# Altium footprint library Switch.PcbLib: 16 footprints
Each footprint in its own frame and in the unit in brackets; x right, y up, seen from the top. Pads: shape width x height; smd on the part's side, far side on the other; paste and mask are expansions set on the pad; w line width, h text height; cw(c..) or ccw(c..) is an arc to the next point about the centre after c.
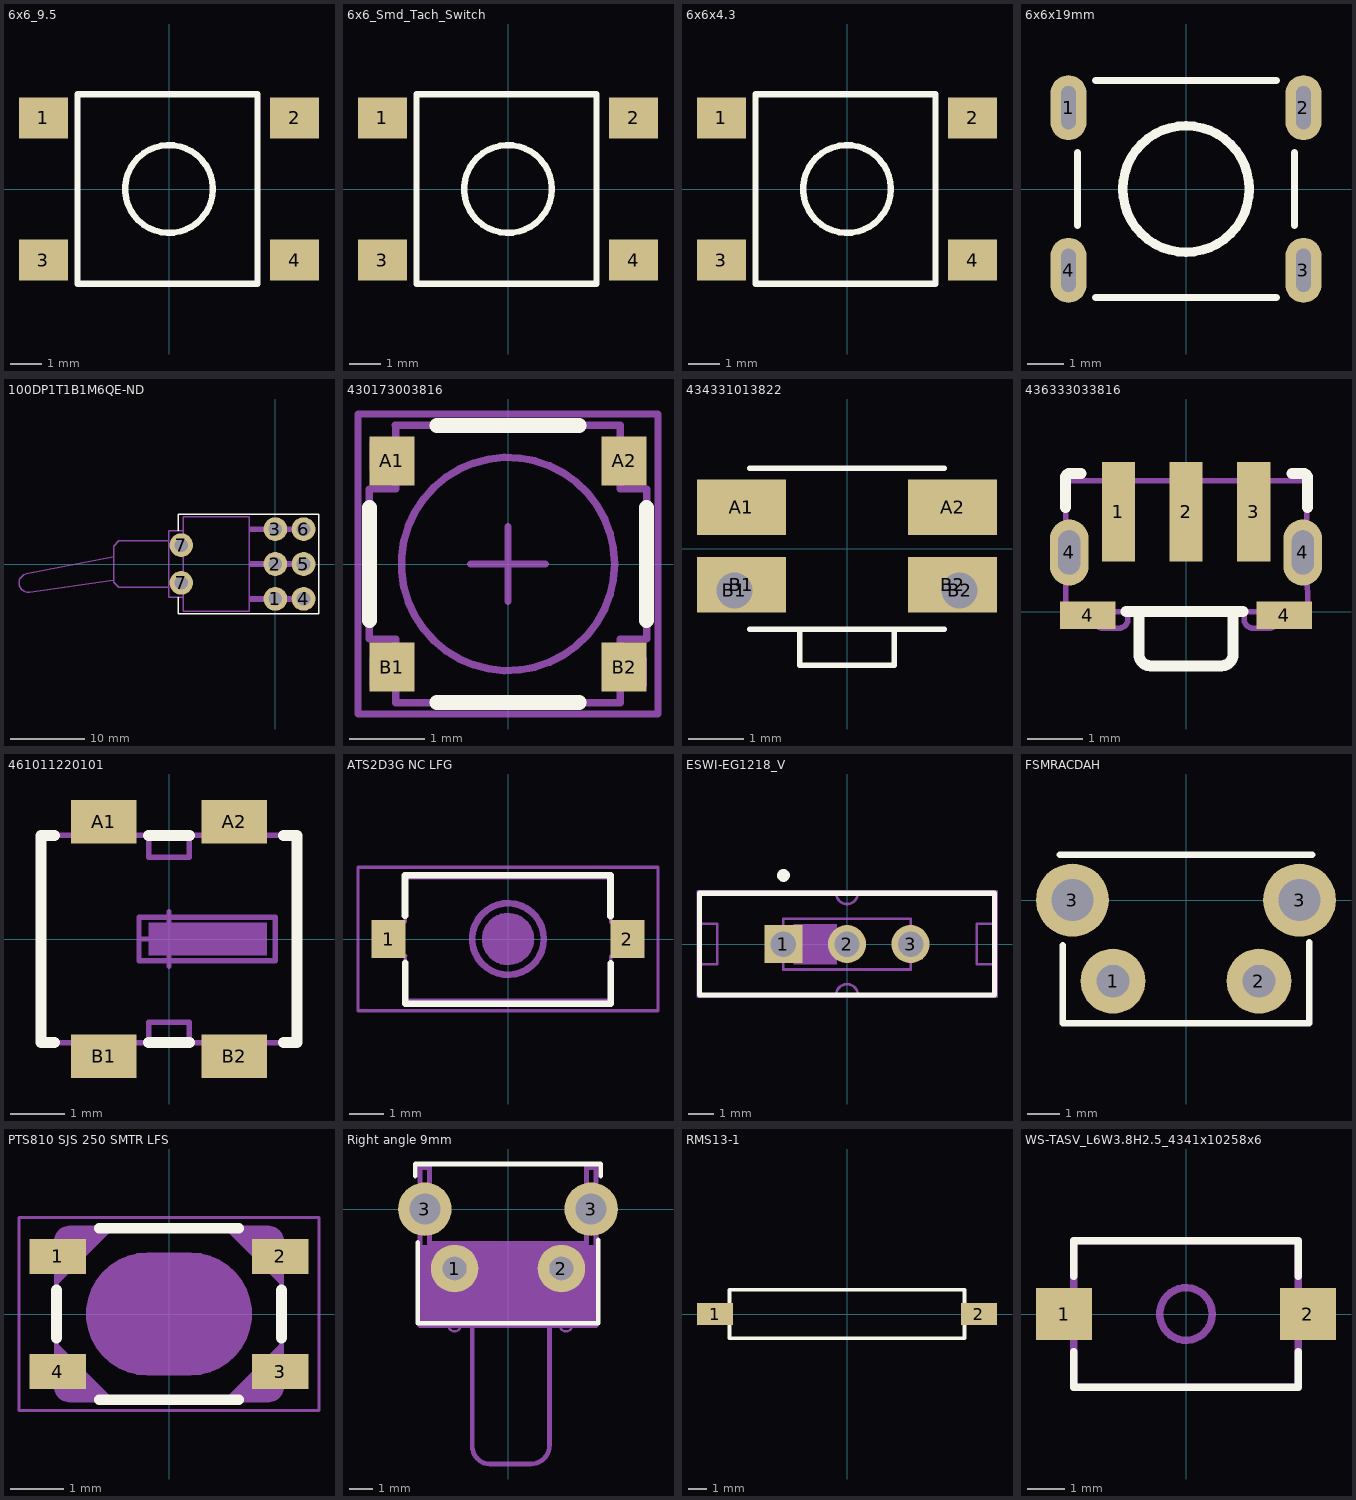
[diagram p0: the footprints below, top view; thin cyan lines are the x and y axes]

## 6x6_9.5 [mm]
pads (4):
  rect 1.55x1.3 smd: 1(-3.975,2.25) 2(3.975,2.25) 3(-3.975,-2.25) 4(3.975,-2.25)
Top Overlay:
  circle w0.2: c0,0 r1.389
  lines w0.2: -2.9,-3 -2.9,3 2.8,3 2.8,-3 -2.9,-3
3D body "6x6x9_5.STEP": height 9.5, standoff 0, extent -4.5,-3 4.5,3

## 6x6_Smd_Tach_Switch [mm]
pads (4):
  rect 1.55x1.3 smd: 1(-3.975,2.25) 2(3.975,2.25) 3(-3.975,-2.25) 4(3.975,-2.25)
Top Overlay:
  circle w0.2: c0,0 r1.389
  lines w0.2: -2.9,-3 -2.9,3 2.8,3 2.8,-3 -2.9,-3
3D body "6x6x4_3mm(2).STEP": height 4.31, standoff 0.01, extent -4.5,-3 4.5,3

## 6x6x4.3 [mm]
pads (4):
  rect 1.55x1.3 smd: 1(-3.975,2.25) 2(3.975,2.25) 3(-3.975,-2.25) 4(3.975,-2.25)
Top Overlay:
  circle w0.2: c0,0 r1.389
  lines w0.2: -2.9,-3 2.8,-3 2.8,3 -2.9,3 -2.9,-3
3D body "6x6x4_3mm(2).STEP": height 4.31, standoff 0.01, extent -4.5,-3 4.5,3

## 6x6x19mm [mm]
height 19
pads (4):
  oval 1x1.8 hole 1.2 slot 0.4 at 0 deg: 1(-3.25,2.25) 2(3.25,2.25) 3(3.25,-2.25) 4(-3.25,-2.25)
Top Overlay:
  circle w0.254: c0,0 r1.75
  lines w0.2: -3,-1 -3,1 ; -2.5,-3 2.5,-3 ; -2.5,3 2.5,3 ; 3,-1 3,1
3D body "Tact_6x6x19.step": height 19.01, standoff -3.49, extent -3.95,-3.1 3.95,3.1

## 100DP1T1B1M6QE-ND [mm] "DPDT"
pads (8):
  round 3.2 hole 1.85: 1(0,-4.7) 2(0,0) 3(0,4.7) 4(3.81,-4.7) 5(3.81,0) 6(3.81,4.7) 7(-12.7,-2.54) 7(-12.7,2.54)
Top Overlay:
  lines w0.2: -13.1,-4.5 -13.1,-6.7 5.9,-6.7 5.9,6.7 -13.1,6.7 -13.1,4.5
Mechanical 13:
  rectangle: -3.6,-5.1 3.844,-4.32
  rectangle: -3.55,-0.4 3.844,0.38
  rectangle: -3.6,4.3 3.844,5.08
  lines w0.2: -21.846,-2.185 -33.164,-3.801 cw(c-33.338,-2.551) -33.594,-1.314 -21.839,0.987 ; -14.4,-3.163 -21.12,-3.163 -21.83,-2.465 -21.83,2.424 -21.12,3.134 -14.421,3.134 -14.4,3.113 ; -12.44,-4.495 -12.44,-4.5 -14.4,-4.5 -14.4,4.487 -12.44,4.487 ; -12.44,-6.35 -12.44,6.35 -3.55,6.35 -3.55,-6.35 -12.44,-6.35
  text ".Designator" at -11.25,-0.084 h2
3D body "100DPXT1B1M6xE.stp": height 11.44, standoff -3.16, extent -32.007,-6.35 4.45,6.35

## 430173003816 [mm] "Tact Switch, SMD, body 3.7x3.7mm"
height 0.35
pads (4):
  rect 0.6x0.65 smd: A1(-1.55,1.375) A2(1.55,1.375) B1(-1.55,-1.375) B2(1.55,-1.375)
Top Overlay:
  lines w0.2: -1.85,-0.75 -1.85,0.75 ; -0.95,-1.85 0.95,-1.85 ; -0.95,1.85 0.95,1.85 ; 1.85,-0.75 1.85,0.75
Mechanical 13:
  circle w0.1: c0,0 r1.421
  region: 1.832,1.629 1.482,1.629 1.482,1.245 1.832,1.245
  rectangle: -1.85,-1.634 -1.5,-1.25
  region: 1.85,-1.25 1.5,-1.25 1.5,-1.634 1.85,-1.634
  rectangle: -1.85,1.25 -1.5,1.634
  lines w0.1: -1.502,1.85 -1.5,1.85 ; 1.5,1 1.5,1.85 -1.5,1.85 ; 1.502,1 1.85,1 1.85,-1 1.5,-1 1.5,-1.85 -1.5,-1.85 -1.5,-1 -1.502,-1 -1.85,-1 -1.85,1 -1.5,1 -1.5,1.85
  text ".Designator" at -3.749,-0.25 h0.75
Mechanical 15:
  lines w0.1: -0.5,-2 -2,-2 ; -0.5,0 0.5,0 ; 0,-0.5 0,0.5 ; -2,-2 -2,2 2,2 2,-2 -2,-2
3D body "4301x30038xx.stp": height 0.35, standoff 0, extent -1.85,-1.85 1.85,1.85

## 434331013822 [mm]
pads (6):
  rect 1.6x1 smd: A1(-1.9,0.75) A2(1.9,0.75) B1(-1.9,-0.65) B2(1.9,-0.65)
  round 0.65 hole 0.65: B1(-2.025,-0.75) B2(2.025,-0.75)
Top Overlay:
  lines w0.1: -1.75,-1.45 1.75,-1.45 ; -1.75,1.45 1.75,1.45 ; -0.85,-1.45 -0.85,-2.1 0.85,-2.1 0.85,-1.45
3D body "434331013822 (rev1).stp": height 1.36, standoff -0.59, extent -2.35,-2.1 2.35,1.45

## 436333033816 [mm]
height 9
pads (7):
  rect 0.6x1.8 smd: 1(-1.225,1.805) 2(0,1.805) 3(1.225,1.805)
  oval 0.7x1.2 hole 0.4 slot 0.8 at 90 deg: 4(-2.115,1.071) 4(2.115,1.071)
  rect 1x0.5 smd: 4(-1.78,-0.064) 4(1.78,-0.064)
Top Overlay:
  lines w0.2: -2.18,1.884 -2.18,2.42 cw(c-2.1,2.42) -2.1,2.5 -1.9,2.5 ; -1.086,0 1.034,0 ; -0.85,0 -0.85,-0.775 ccw(c-0.645,-0.775) -0.645,-0.98 -0.54,-0.98 0.645,-0.98 ccw(c0.645,-0.775) 0.85,-0.775 0.85,0 ; 1.92,2.5 2.12,2.5 cw(c2.12,2.42) 2.2,2.42 2.2,1.884
Mechanical 13:
  lines w0.1: -1.67,0 -1.67,-0.131 ccw(c-1.5,-0.131) -1.5,-0.301 -1.221,-0.301 ccw(c-1.221,-0.13) -1.05,-0.13 -1.05,0 -0.85,0 -0.85,-0.8 ccw(c-0.67,-0.8) -0.67,-0.98 0,-0.98 0.67,-0.98 ccw(c0.67,-0.8) 0.85,-0.8 0.85,0 ; 1.05,0 1.05,-0.13 ccw(c1.221,-0.13) 1.221,-0.301 1.5,-0.301 ccw(c1.5,-0.131) 1.67,-0.131 1.67,0 ; -2.18,0 2.2,0 2.18,2.37 -2.18,2.37 -2.18,0
  lines w0.2: -2.18,1.071 -2.05,1.071 ; -2.115,0.896 -2.115,1.246
  text ".Designator" at -3.749,1.15 h0.75
3D body "STP_436333033816 (rev1).stp": height 3.36, standoff -0.41, extent -2.18,-0.981 2.18,2.511

## 461011220101 [mm] "4.7x3.8 mm SMD Detector Switch"
height 3.8
pads (4):
  rect 1.2x0.8 smd: A1(-1.2,2.15) A2(1.2,2.15) B1(-1.2,-2.15) B2(1.2,-2.15)
Top Overlay:
  lines w0.2: -2.1,-1.9 -2.35,-1.9 -2.35,1.9 -2.1,1.9 ; -0.375,-1.9 0.375,-1.9 ; -0.375,1.9 0.375,1.9 ; 2.1,-1.9 2.35,-1.9 2.35,1.9 2.1,1.9
Mechanical 13:
  rectangle: -0.375,-0.3 1.8,0.3
  region: -0.7,-1.9 -1.7,-1.9 -1.7,-2.3 -0.7,-2.3
  region: 1.7,-1.9 0.7,-1.9 0.7,-2.3 1.7,-2.3
  rectangle: 0.7,1.9 1.7,2.3
  rectangle: -1.7,1.9 -0.7,2.3
  lines w0.1: -0.55,-1.9 -0.375,-1.9 -0.375,-1.525 0.375,-1.525 0.375,-1.9 ; -0.55,1.9 -0.375,1.9 -0.375,1.5 0.375,1.5 0.375,1.9 ; -2.35,-1.9 -2.35,1.9 2.35,1.9 2.35,-1.9 -2.35,-1.9 ; -0.55,-0.4 1.95,-0.4 1.95,0.4 -0.55,0.4 -0.55,-0.4
  text ".Designator" at -2.499,0.733 h0.5
Mechanical 15:
  lines w0.1: -0.5,0 0.5,0 ; 0,-0.5 0,0.5 ; -2.35,-1.9 -2.35,1.9 2.35,1.9 2.35,-1.9 -2.35,-1.9
3D body "461011220101.stp": height 3.8, standoff 0, extent -2.45,-2.35 2.45,2.35

## ATS2D3G NC LFG [mm] "4.7x3.8 mm SMD Detector Switch"
height 3.8
pads (2):
  rect 1x1.1 smd: 1(-3.5,0) 2(3.5,0)
Top Overlay:
  lines w0.2: -3.026,0.683 -3.026,1.87 3.005,1.87 3.005,0.665 ; -3.015,-0.695 -3.015,-1.9 3.015,-1.9 3.015,-0.716
Mechanical 1:
  lines w0.1: -3.015,-0.495 -3,-0.495
Mechanical 13:
  circle w0.2: c0,0 r1.05
  circle w0.2: c0,0 r0.67
  circle w0.8: c0,0 r0.354
  rectangle: -3.65,-0.495 -3.015,0.5
  region: 3.65,0.495 3.015,0.495 3.015,-0.5 3.65,-0.5
  lines w0.1: -3.015,-0.495 -3.015,-1.8 0,-1.8 3.015,-1.8 3.015,-0.5 ; -3.015,0.5 -3.015,1.8 0,1.8 3.015,1.8 3.015,0.495
  text ".Designator" at -1.733,-2.499 h0.5
Mechanical 15:
  lines w0.1: -0.5,0 0.5,0 ; 0,-0.5 0,0.5 ; -4.4,-2.1 4.4,-2.1 4.4,2.1 -4.4,2.1 -4.4,-2.1
3D body "ATS2D1GNCLFS v1.step": height 3.2, standoff 0, extent -3.65,-1.92 3.65,1.92

## ESWI-EG1218_V [mm] "THD, 3-Leads, Body 11.6x4mm, Pitch 2.5mm"
height 7.4
pads (3):
  rect 1.5x1.5 hole 1: 1(-2.5,0)
  round 1.5 hole 1: 2(0,0) 3(2.5,0)
Top Overlay:
  circle w0.25: c-2.5,2.7 r0.125
  lines w0.2: -5.8,-2 5.8,-2 5.8,2 -5.8,2 -5.8,-2
Mechanical 13:
  rectangle: -2.1,-0.8 -0.4,0.8
  lines w0.1: -5.8,-0.8 -5.1,-0.8 -5.1,0.8 -5.8,0.8 ; -0.424,-2 cw(c0,-2) 0.424,-2 ; -0.424,2 ccw(c0,2) 0.424,2 ; 5.8,-0.8 5.1,-0.8 5.1,0.8 5.8,0.8 ; -5.8,-2 5.8,-2 5.8,2 -5.8,2 -5.8,-2 ; -2.5,-1 2.5,-1 2.5,1 -2.5,1 -2.5,-1
  text "1" at -2.7,1.2 h0.5
  text ".Designator" at -5.6,-1.667 h0.7
Mechanical 15:
  lines w0.05: -5.9,-2.1 5.9,-2.1 5.9,2.1 -5.9,2.1 -5.9,-2.1
  lines w0.1: -0.5,0 0.5,0 ; 0,-0.5 0,0.5
3D body "User Library-EG1218.STEP": height 7.4, standoff -4.7, extent -5.8,-2 5.8,2

## FSMRACDAH [mm]
height 9
pads (4):
  round 2 hole 1: 1(-2.25,-2.5) 2(2.25,-2.5)
  round 2.25 hole 1.3: 3(-3.5,0) 3(3.5,0)
Top Overlay:
  lines w0.2: -3.9,1.4 3.9,1.4 ; -3.8,-1.4 -3.8,-3.8 3.8,-3.8 3.8,-1.3
3D body "TL1105JAFxxxx.stp": height 7.32, standoff -3.69, extent -4.198,-8.843 4.198,1.511

## PTS810 SJS 250 SMTR LFS [mm] "Tact Switch, SMD, body 4.2x3.2mm"
height 2.5
pads (4):
  rect 1.05x0.65 smd: 1(-2.075,1.075) 2(2.075,1.075) 3(2.075,-1.075) 4(-2.075,-1.075)
Top Overlay:
  lines w0.2: -2.1,-0.45 -2.1,0.45 ; -1.3,-1.6 1.3,-1.6 ; -1.3,1.6 1.3,1.6 ; 2.1,-0.45 2.1,0.45
Mechanical 13:
  region: 2.299,1.35 2.1,1.35 2.1,0.8 2.299,0.8
  rectangle: -2.299,-1.35 -2.1,-0.8
  region: 2.299,-0.8 2.1,-0.8 2.1,-1.35 2.299,-1.35
  rectangle: -2.299,0.8 -2.1,1.35
  region: -0.4,-1.1 -0.385,-1.085 0.453,-1.085 0.556,-1.085 0.758,-1.045 0.949,-0.966 1.12,-0.852 1.266,-0.706 1.38,-0.535 1.459,-0.344 1.499,-0.142 1.499,-0.039 1.499,0.073 1.455,0.293 1.369,0.5 1.245,0.687 1.086,0.845 0.9,0.97 0.692,1.056 0.472,1.1 0.36,1.1 -0.4,1.1 -0.509,1.1 -0.721,1.057 -0.921,0.974 -1.101,0.854 -1.255,0.701 -1.375,0.521 -1.458,0.321 -1.5,0.108 -1.5,0 -1.5,-0.108 -1.458,-0.321 -1.375,-0.521 -1.254,-0.701 -1.101,-0.854 -0.921,-0.975 -0.721,-1.058 -0.509,-1.1 -0.4,-1.1 -0.241,-1.1
  region: 2.028,0.672 1.1,1.6 1.85,1.6 1.947,1.6 2.1,1.447 2.1,0.6
  region: -2.028,-0.672 -1.1,-1.6 -1.85,-1.6 -1.947,-1.6 -2.1,-1.447 -2.1,-0.6
  region: 2.028,-0.672 1.1,-1.6 1.85,-1.6 1.947,-1.6 2.1,-1.447 2.1,-0.6
  region: -2.028,0.672 -1.1,1.6 -1.85,1.6 -1.947,1.6 -2.1,1.447 -2.1,0.6
  lines w0.1: -2.1,-0.6 -1.1,-1.6 ; -2.1,0.6 -1.1,1.6 ; 1.1,-1.6 2.1,-0.6 ; 1.1,1.6 2.1,0.6 ; -2.1,-1.35 ccw(c-1.85,-1.35) -1.85,-1.6 1.85,-1.6 ccw(c1.85,-1.35) 2.1,-1.35 2.1,1.35 ccw(c1.85,1.35) 1.85,1.6 -1.85,1.6 ccw(c-1.85,1.35) -2.1,1.35 -2.1,-1.35 ; -0.4,-1.1 cw(c-0.4,0) -0.4,1.1 0.4,1.099 cw(c0.4,0) 0.4,-1.1 -0.4,-1.1
  text ".Designator" at -4.998,-2.833 h1
Mechanical 15:
  lines w0.05: -0.5,0 0.5,0 ; 0,-0.5 0,0.5 ; -2.8,-1.8 -2.8,1.8 2.8,1.8 2.8,-1.8 -2.8,-1.8
3D body "4341x30258x6.stp": height 2.5, standoff 0, extent -2.299,-1.6 2.3,1.6

## Right angle 9mm [mm]
height 9
pads (4):
  round 2 hole 1: 1(-2.25,-2.5) 2(2.25,-2.5)
  round 2.25 hole 1.3: 3(-3.5,0) 3(3.5,0)
Top Overlay:
  lines w0.2: -3.9,1.4 -3.9,1.9 3.9,1.9 3.9,1.4 ; -3.8,-1.4 -3.8,-4.8 3.8,-4.8 3.8,-1.3
Mechanical 13:
  rectangle: -3.7,-4.9 3.7,-1.5
  lines w0.1: -2.498,-4.9 ccw(c-2.248,-4.9) -1.998,-4.9 ; 2.19,-4.9 ccw(c2.44,-4.9) 2.69,-4.9
  lines w0.2: -3.4,1.75 -3.7,1.75 ; 1.996,-4.9 -1.5,-4.9 ; -3.7,1.75 -3.3,1.75 -3.3,-1.45 3.3,-1.45 3.3,1.75 3.7,1.75 3.7,-4.9 1.75,-4.9 1.75,-9.936 cw(c0.955,-9.936) 0.955,-10.73 -0.774,-10.726 cw(c-0.774,-9.999) -1.5,-9.999 -1.5,-4.9 ; -3.7,1.75 -3.7,-4.9 -1.5,-4.9
  text ".Designator" at -4.998,-0.233 h1
3D body "SWITCH_TACTILE_RIGHT_ANGLE_TC_0240Z.step": height 7.01, standoff -3.99, extent -3.7,-10.75 3.7,1.75

## RMS13-1 [mm]
pads (2):
  rect 2x1.2 smd: 1(-7.3,0) 2(7.3,0)
Top Overlay:
  lines w0.2: -6.5,-1.35 -6.5,1.35 6.5,1.35 6.5,-1.35 -6.5,-1.35
3D body "RMS13-1.step": height 2.41, standoff 0.01, extent -7.8,-1.15 7.8,1.15

## WS-TASV_L6W3.8H2.5_4341x10258x6 [mm] "SMD Tact Switch, body 6x3.8mm"
height 2.5
pads (2):
  rect 1.5x1.4 smd: 1(-3.25,0) 2(3.25,0)
Top Overlay:
  lines w0.2: -3,-1 -3,-1.95 3,-1.95 3,-1 ; -3,1 -3,1.95 3,1.95 3,1
Mechanical 13:
  circle w0.2: c0,0 r0.7
  rectangle: -3.7,-0.5 -3,0.479
  region: 3.7,0.5 3,0.5 3,-0.479 3.7,-0.479
  lines w0.2: -3,-1.95 -3,1.95 3,1.95 3,-1.95 -3,-1.95
  text ".Designator" at -2.499,-1.467 h0.5
3D body "4341x10258xx.stp": height 2.5, standoff 0, extent -3.65,-1.95 3.65,1.95